# EAGLE library part TNY253/254/255 (library power_integrations)
The TinySwitch family uses a breakthrough design to provide the lowest cost, high efficiency, off-line switcher solution in the 0 to 10 W range. These devices integrate a 700 V power MOSFET, oscillator, high voltage switched current source, current limit and thermal shutdown circuitry. They start-up and run on power derived from the DRAIN voltage, eliminating the need for a transformer bias winding and the associated circuitry. And yet, they consume only about 80 mW at no load, from 265 VAC input. A simple ON/OFF control scheme also eliminates the need for loop compensation.
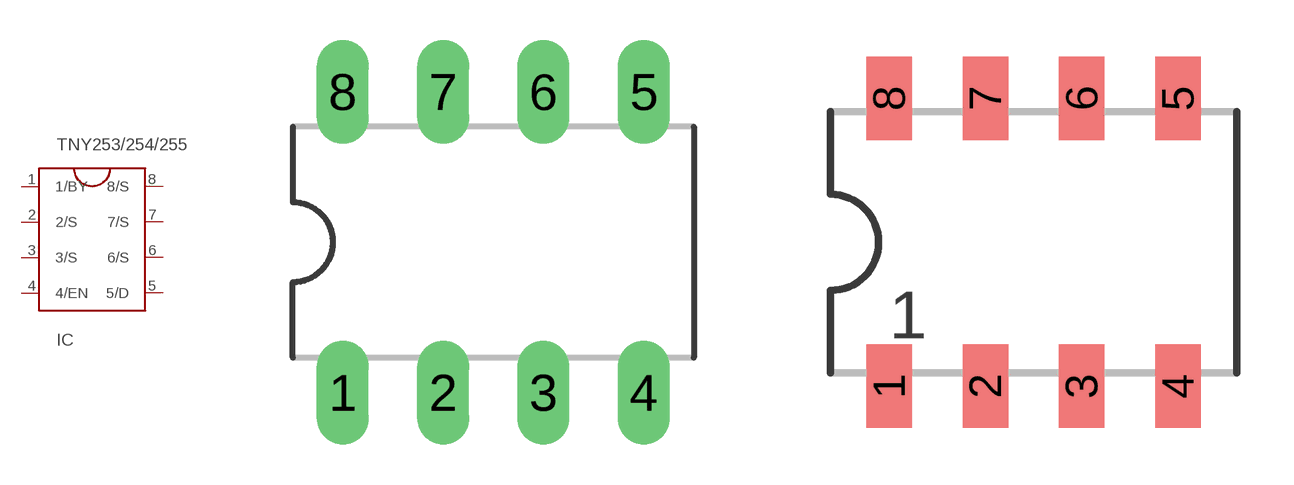
[diagram p14: symbol with the pads of DIL08; footprints DIL08, DIP8]

Designator prefix IC

## TNY253/254/255  [DIL08]
1  1/BY
2  2/S
3  3/S
4  4/EN
5  5/D
6  6/S
7  7/S
8  8/S

## TNY253/254/255DIP8  [DIP8]
Pads as for DIL08

## Footprint DIL08 (pad centres in mm)
Dual In Line Package
drill 0.813 long: 1 -3.81,-3.81; 2 -1.27,-3.81; 3 1.27,-3.81; 4 3.81,-3.81; 5 3.81,3.81; 6 1.27,3.81; 7 -1.27,3.81; 8 -3.81,3.81

## Footprint DIP8 (pad centres in mm)
SMD DIL08 dual in line package'
smd 1.2 x 2.2: 1 -3.81,-3.8; 2 -1.27,-3.8; 3 1.27,-3.8; 4 3.81,-3.8; 5 3.81,3.8; 6 1.27,3.8; 7 -1.27,3.8; 8 -3.81,3.8